# EAGLE library part STM32C011F4P6 (library 2023-02-27_18-05-13_Library)
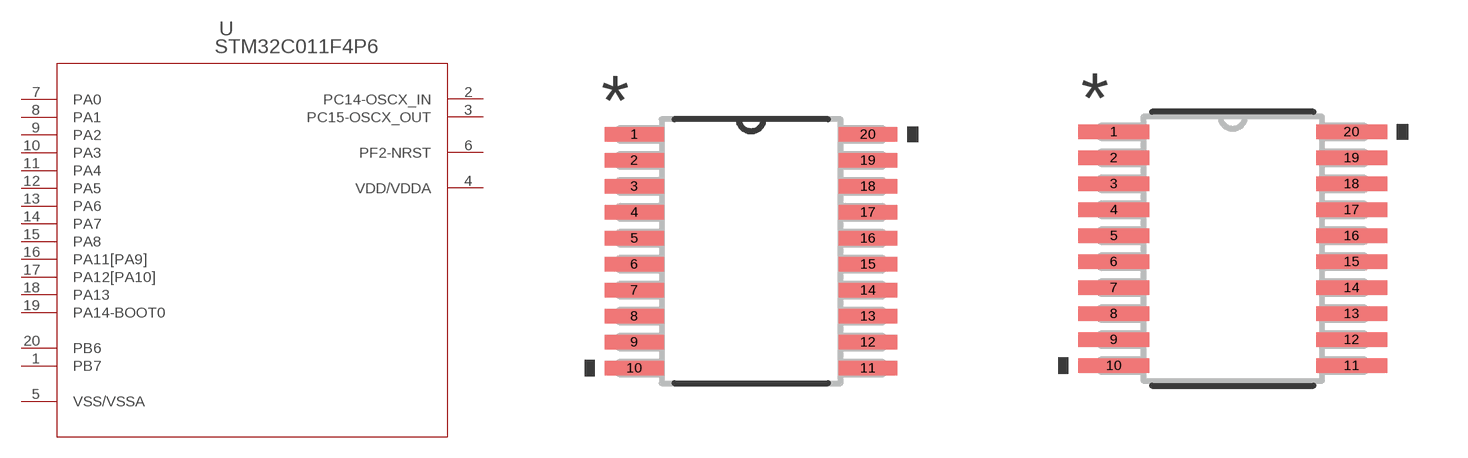
[diagram p0: symbol with the pads of TSSOP20_STM; footprints TSSOP20_STM, TSSOP20_STM-M]

Designator prefix U

## STM32C011F4P6TSSOP20_STM (Copyright: Copyright (C) 2023 Ultra Librarian. All rights reserved.; Manufacturer_Part_Number: STM32C011F4P6; Mfr_Name: STMicroelectronics)  [TSSOP20_STM]
1  PB7
2  PC14-OSCX_IN
3  PC15-OSCX_OUT
4  VDD/VDDA  pwr
5  VSS/VSSA  pwr
6  PF2-NRST
7  PA0
8  PA1
9  PA2
10  PA3
11  PA4
12  PA5
13  PA6
14  PA7
15  PA8
16  PA11[PA9]
17  PA12[PA10]
18  PA13
19  PA14-BOOT0
20  PB6

## STM32C011F4P6TSSOP20_STM-M (Copyright: Copyright (C) 2023 Ultra Librarian. All rights reserved.; Manufacturer_Part_Number: STM32C011F4P6; Mfr_Name: STMicroelectronics)  [TSSOP20_STM-M]
Pads as for TSSOP20_STM

## STM32C011F4P6TSSOP20_STM-L (Copyright: Copyright (C) 2023 Ultra Librarian. All rights reserved.; Manufacturer_Part_Number: STM32C011F4P6; Mfr_Name: STMicroelectronics)  [TSSOP20_STM-L]
Pads as for TSSOP20_STM

## Footprint TSSOP20_STM (pad centres in mm)
smd 1.473 x 0.356: 1 -2.921,2.925; 2 -2.921,2.275; 3 -2.921,1.625; 4 -2.921,0.975; 5 -2.921,0.325; 6 -2.921,-0.325; 7 -2.921,-0.975; 8 -2.921,-1.625; 9 -2.921,-2.275; 10 -2.921,-2.925; 11 2.921,-2.925; 12 2.921,-2.275; 13 2.921,-1.625; 14 2.921,-0.975; 15 2.921,-0.325; 16 2.921,0.325; 17 2.921,0.975; 18 2.921,1.625; 19 2.921,2.275; 20 2.921,2.925

## Footprint TSSOP20_STM-M (pad centres in mm)
smd 1.778 x 0.356: 1 -2.972,2.925; 2 -2.972,2.275; 3 -2.972,1.625; 4 -2.972,0.975; 5 -2.972,0.325; 6 -2.972,-0.325; 7 -2.972,-0.975; 8 -2.972,-1.625; 9 -2.972,-2.275; 10 -2.972,-2.925; 11 2.972,-2.925; 12 2.972,-2.275; 13 2.972,-1.625; 14 2.972,-0.975; 15 2.972,-0.325; 16 2.972,0.325; 17 2.972,0.975; 18 2.972,1.625; 19 2.972,2.275; 20 2.972,2.925

## Footprint TSSOP20_STM-L (pad centres in mm)
smd 1.168 x 0.305: 1 -2.87,2.925; 2 -2.87,2.275; 3 -2.87,1.625; 4 -2.87,0.975; 5 -2.87,0.325; 6 -2.87,-0.325; 7 -2.87,-0.975; 8 -2.87,-1.625; 9 -2.87,-2.275; 10 -2.87,-2.925; 11 2.87,-2.925; 12 2.87,-2.275; 13 2.87,-1.625; 14 2.87,-0.975; 15 2.87,-0.325; 16 2.87,0.325; 17 2.87,0.975; 18 2.87,1.625; 19 2.87,2.275; 20 2.87,2.925